# Altium integrated library TI Data Converters Analog to Digital Converter.IntLib: 2197 symbols (part 28 of 168)
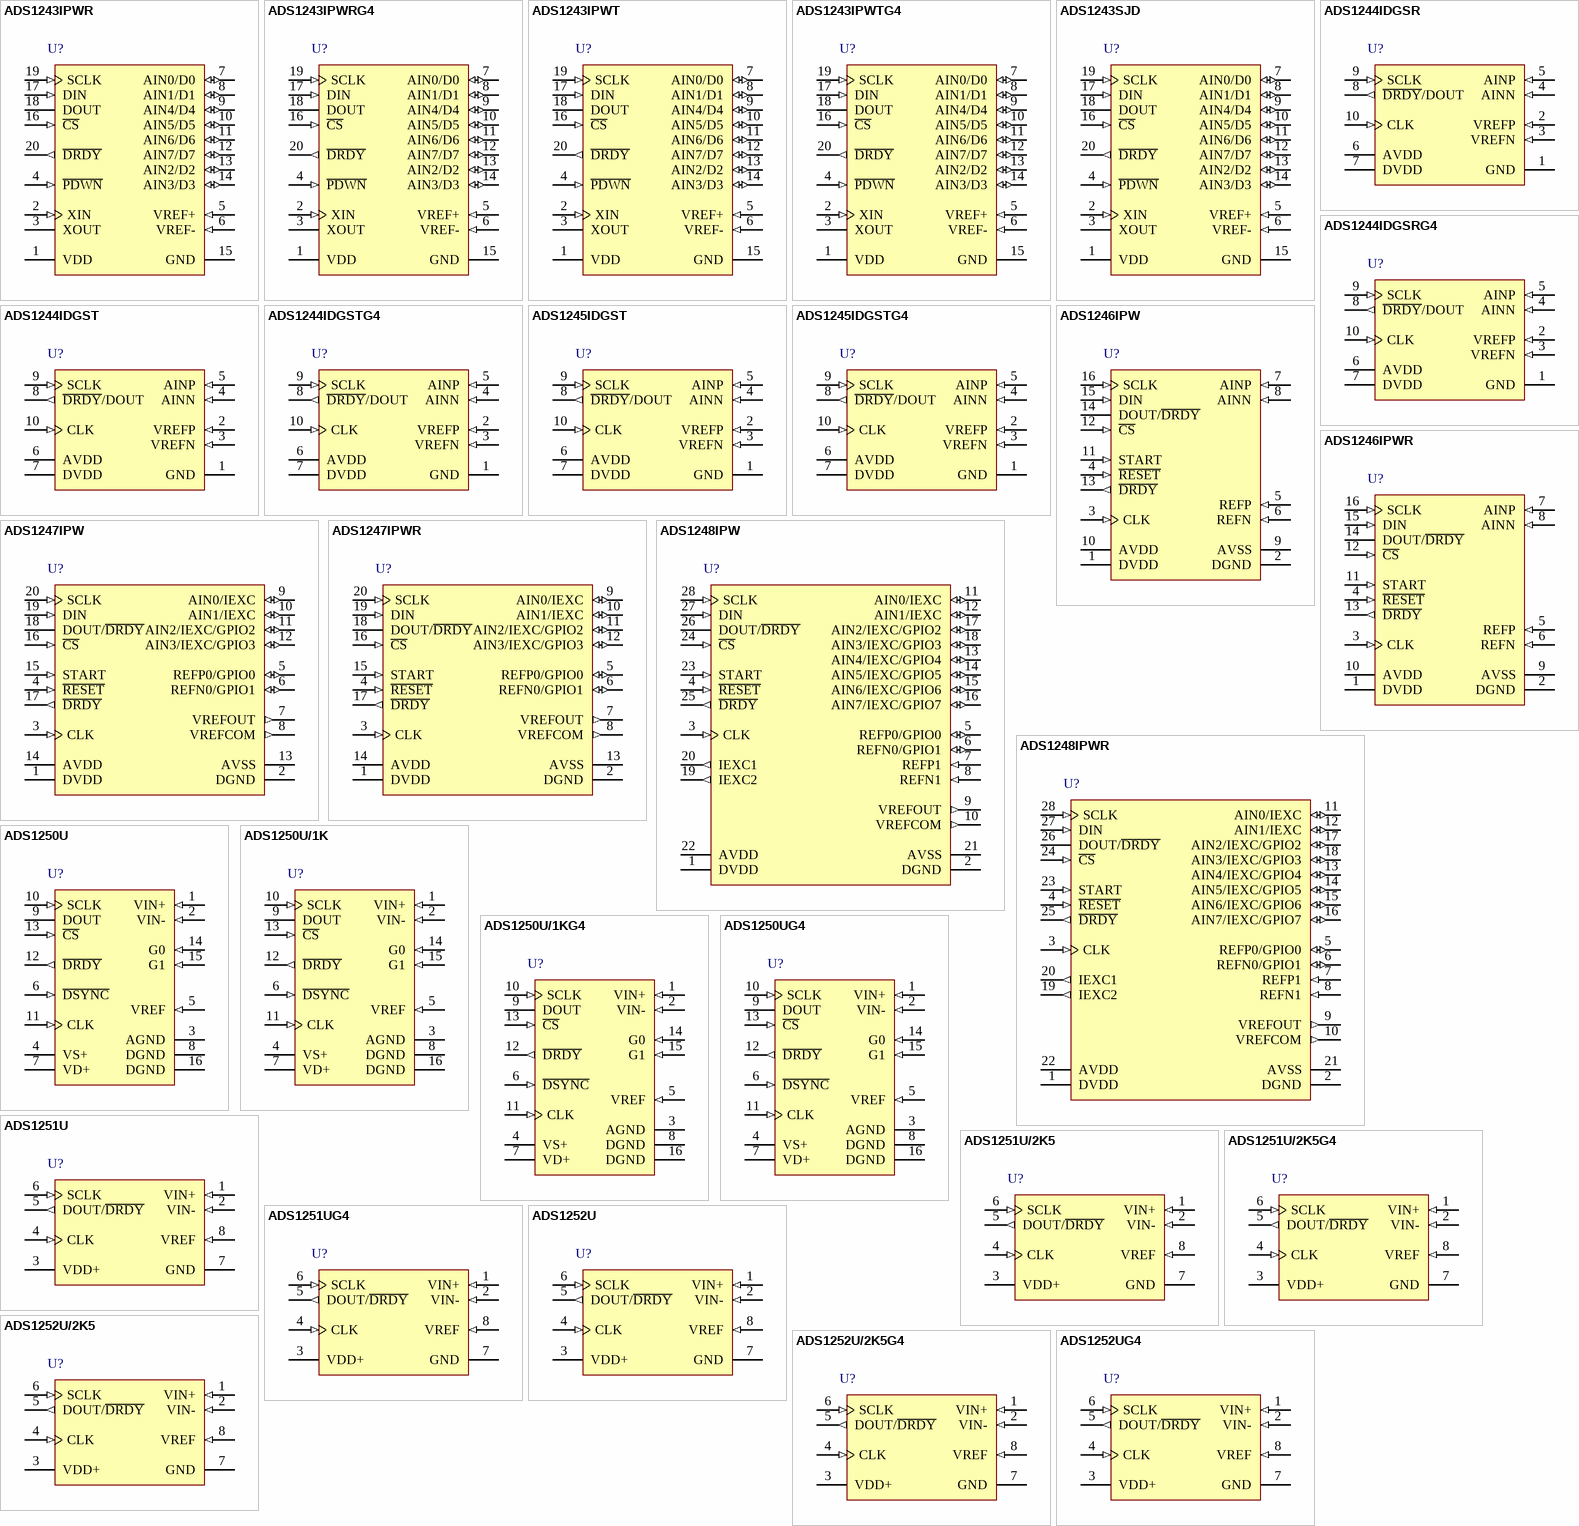
[diagram p153: symbols ADS1243IPWR to ADS1252UG4]

## ADS1250U/1K
designator U?
20-Bit Data Acquisition System, -40 to 85 degC, 16-pin SOIC (DW16), Green (RoHS & no Sb/Br); Manufacturer: Texas Instruments; PartNumber: ADS1250U/1K; # Input Channels: 1; Analog Voltage AV/DD(Max)(V): 5.25; Analog Voltage AV/DD(Min)(V): 4.75; Architecture: Delta-Sigma; ENOB(Bits): 18; Interface: Serial SPI; Resolution(Bits): 20; Sample Rate (max)(SPS): 25k; SubFamily: Precision ADC (<=10MSPS); DatasheetVersion: SBAS114; PackageVersion: 4040000-2/G, 01/2011; PackageReference: DW16; PackageDescription: 16-Pin Plastic Small Outline, Body 10.30 x 7.50 mm, Pitch 1.27 mm; Supplier 1: Digi-Key; Supplier Part Number 1: 296-34356-5-ND; Supplier 2: Mouser; Supplier Part Number 2: 595-TLC3548CDW; Digital Supply(Max)(V): 5.25; Digital Supply(Min)(V): 4.75; Eco-Plan: Green (RoHS & no Sb/Br); Mounting Technology: Surface Mount; Code_JEDEC: MS-013; ComponentLink1Description: Manufacturer URL; ComponentLink1URL: http://www.ti.com/; ComponentLink2Description: Datasheet; ComponentLink2URL: http://www.ti.com/general/docs/lit/getliterature.tsp?genericPartNumber=ADS1250&fileType=pdf; ComponentLink3Description: Package Specification; ComponentLink3URL: http://www.ti.com/litv/pdf/msoi003g
footprint TI-DW16_N (SOIC, 16-Leads, Body 10.3x7.5mm, Pitch 1.27mm, IPC Medium Density)
footprint TI-DW16_L (SOIC, 16-Leads, Body 10.3x7.5mm, Pitch 1.27mm, IPC High Density)
footprint TI-DW16_M (SOIC, 16-Leads, Body 10.3x7.5mm, Pitch 1.27mm, IPC Low Density)
pins: 1 VIN+ (in) "Analog Input: Positive Input of the Differential Analog Input.", 2 VIN- (in) "Analog Input: Negative Input of the Differential Analog Input.", 3 AGND (power) "Analog Input: Analog Ground.", 4 VS+ (power) "Analog Input: Analog Power Supply Voltage, +5V.", 5 VREF (in) "Analog Input: Reference Voltage Input.", 6 ~{DSYNC} (in) "Digital Input: Data Synchronization. A falling edge on this input will reset the modulator count and place the modulator in a hold state. The modulator is released from the hold state on the rising edge of D\S\Y\N\C\. This (See Datasheet)", 7 VD+ (power) "Digital Input: Digital Power Supply Voltage, +5V.", 8 DGND (power) "Digital Input: Digital Ground.", 9 DOUT (hiz) "Digital Output: Serial Data Output. The serial data is clocked out of the serial data output shift register through this pin. The pin is driven when C\S\ is LOW, and high impedance when C\S\ is HIGH.", 10 SCLK (in) "Digital Input: Serial Clock. The serial clock is in the form of a CMOS-compatible clock. The serial clock can operate up to the device’s system clock frequency. The serial clock can be either a free-running clock o(See Datasheet)", 11 CLK (in) "Digital Input: Device System Clock. The system clock is in the form of a CMOS-compatible clock.", 12 ~{DRDY} (out) "Digital Output: Data Ready. A falling edge on this output indicates that a new output word is available from the ADS1250 data output register", 13 ~{CS} (in) "Digital Input: Chip Select. Active LOW logic input used to enable serial data output from the ADS1250. C\S\ controls the state of the DOUT pin. If C\S\ is HIGH, DOUT is high impedance; if C\S\ is LOW, DOUT drives the bus. (See Datasheet)", 14 G0 (in) "Digital Input: Gain Selection Control (LSB).", 15 G1 (in) "Digital Input: Gain Selection Control (MSB).", 16 DGND (power) "Digital Input: Digital Ground."

## ADS1250U/1KG4
designator U?
20-Bit Data Acquisition System, -40 to 85 degC, 16-pin SOIC (DW16), Green (RoHS & no Sb/Br); Manufacturer: Texas Instruments; PartNumber: ADS1250U/1KG4; # Input Channels: 1; Analog Voltage AV/DD(Max)(V): 5.25; Analog Voltage AV/DD(Min)(V): 4.75; Architecture: Delta-Sigma; ENOB(Bits): 18; Interface: Serial SPI; Resolution(Bits): 20; Sample Rate (max)(SPS): 25k; SubFamily: Precision ADC (<=10MSPS); DatasheetVersion: SBAS114; PackageVersion: 4040000-2/G, 01/2011; PackageReference: DW16; PackageDescription: 16-Pin Plastic Small Outline, Body 10.30 x 7.50 mm, Pitch 1.27 mm; Supplier 1: Digi-Key; Supplier Part Number 1: TLC3548CDWG4-ND; Supplier 2: Mouser; Supplier Part Number 2: 595-TLC3548CDWG4; Digital Supply(Max)(V): 5.25; Digital Supply(Min)(V): 4.75; Eco-Plan: Green (RoHS & no Sb/Br); Mounting Technology: Surface Mount; Code_JEDEC: MS-013; ComponentLink1Description: Manufacturer URL; ComponentLink1URL: http://www.ti.com/; ComponentLink2Description: Datasheet; ComponentLink2URL: http://www.ti.com/general/docs/lit/getliterature.tsp?genericPartNumber=ADS1250&fileType=pdf; ComponentLink3Description: Package Specification; ComponentLink3URL: http://www.ti.com/litv/pdf/msoi003g
footprint TI-DW16_N (SOIC, 16-Leads, Body 10.3x7.5mm, Pitch 1.27mm, IPC Medium Density)
footprint TI-DW16_L (SOIC, 16-Leads, Body 10.3x7.5mm, Pitch 1.27mm, IPC High Density)
footprint TI-DW16_M (SOIC, 16-Leads, Body 10.3x7.5mm, Pitch 1.27mm, IPC Low Density)
pins: 1 VIN+ (in) "Analog Input: Positive Input of the Differential Analog Input.", 2 VIN- (in) "Analog Input: Negative Input of the Differential Analog Input.", 3 AGND (power) "Analog Input: Analog Ground.", 4 VS+ (power) "Analog Input: Analog Power Supply Voltage, +5V.", 5 VREF (in) "Analog Input: Reference Voltage Input.", 6 ~{DSYNC} (in) "Digital Input: Data Synchronization. A falling edge on this input will reset the modulator count and place the modulator in a hold state. The modulator is released from the hold state on the rising edge of D\S\Y\N\C\. This (See Datasheet)", 7 VD+ (power) "Digital Input: Digital Power Supply Voltage, +5V.", 8 DGND (power) "Digital Input: Digital Ground.", 9 DOUT (hiz) "Digital Output: Serial Data Output. The serial data is clocked out of the serial data output shift register through this pin. The pin is driven when C\S\ is LOW, and high impedance when C\S\ is HIGH.", 10 SCLK (in) "Digital Input: Serial Clock. The serial clock is in the form of a CMOS-compatible clock. The serial clock can operate up to the device’s system clock frequency. The serial clock can be either a free-running clock o(See Datasheet)", 11 CLK (in) "Digital Input: Device System Clock. The system clock is in the form of a CMOS-compatible clock.", 12 ~{DRDY} (out) "Digital Output: Data Ready. A falling edge on this output indicates that a new output word is available from the ADS1250 data output register", 13 ~{CS} (in) "Digital Input: Chip Select. Active LOW logic input used to enable serial data output from the ADS1250. C\S\ controls the state of the DOUT pin. If C\S\ is HIGH, DOUT is high impedance; if C\S\ is LOW, DOUT drives the bus. (See Datasheet)", 14 G0 (in) "Digital Input: Gain Selection Control (LSB).", 15 G1 (in) "Digital Input: Gain Selection Control (MSB).", 16 DGND (power) "Digital Input: Digital Ground."

## ADS1250UG4
designator U?
20-Bit Data Acquisition System, -40 to 85 degC, 16-pin SOIC (DW16), Green (RoHS & no Sb/Br); Manufacturer: Texas Instruments; PartNumber: ADS1250UG4; # Input Channels: 1; Analog Voltage AV/DD(Max)(V): 5.25; Analog Voltage AV/DD(Min)(V): 4.75; Architecture: Delta-Sigma; ENOB(Bits): 18; Interface: Serial SPI; Resolution(Bits): 20; Sample Rate (max)(SPS): 25k; SubFamily: Precision ADC (<=10MSPS); DatasheetVersion: SBAS114; PackageVersion: 4040000-2/G, 01/2011; PackageReference: DW16; PackageDescription: 16-Pin Plastic Small Outline, Body 10.30 x 7.50 mm, Pitch 1.27 mm; Supplier 1: Digi-Key; Supplier Part Number 1: TLC3548CDWR-ND; Supplier 2: Mouser; Supplier Part Number 2: 595-TLC3548CDWR; Digital Supply(Max)(V): 5.25; Digital Supply(Min)(V): 4.75; Eco-Plan: Green (RoHS & no Sb/Br); Mounting Technology: Surface Mount; Code_JEDEC: MS-013; ComponentLink1Description: Manufacturer URL; ComponentLink1URL: http://www.ti.com/; ComponentLink2Description: Datasheet; ComponentLink2URL: http://www.ti.com/general/docs/lit/getliterature.tsp?genericPartNumber=ADS1250&fileType=pdf; ComponentLink3Description: Package Specification; ComponentLink3URL: http://www.ti.com/litv/pdf/msoi003g
footprint TI-DW16_N (SOIC, 16-Leads, Body 10.3x7.5mm, Pitch 1.27mm, IPC Medium Density)
footprint TI-DW16_L (SOIC, 16-Leads, Body 10.3x7.5mm, Pitch 1.27mm, IPC High Density)
footprint TI-DW16_M (SOIC, 16-Leads, Body 10.3x7.5mm, Pitch 1.27mm, IPC Low Density)
pins: 1 VIN+ (in) "Analog Input: Positive Input of the Differential Analog Input.", 2 VIN- (in) "Analog Input: Negative Input of the Differential Analog Input.", 3 AGND (power) "Analog Input: Analog Ground.", 4 VS+ (power) "Analog Input: Analog Power Supply Voltage, +5V.", 5 VREF (in) "Analog Input: Reference Voltage Input.", 6 ~{DSYNC} (in) "Digital Input: Data Synchronization. A falling edge on this input will reset the modulator count and place the modulator in a hold state. The modulator is released from the hold state on the rising edge of D\S\Y\N\C\. This (See Datasheet)", 7 VD+ (power) "Digital Input: Digital Power Supply Voltage, +5V.", 8 DGND (power) "Digital Input: Digital Ground.", 9 DOUT (hiz) "Digital Output: Serial Data Output. The serial data is clocked out of the serial data output shift register through this pin. The pin is driven when C\S\ is LOW, and high impedance when C\S\ is HIGH.", 10 SCLK (in) "Digital Input: Serial Clock. The serial clock is in the form of a CMOS-compatible clock. The serial clock can operate up to the device’s system clock frequency. The serial clock can be either a free-running clock o(See Datasheet)", 11 CLK (in) "Digital Input: Device System Clock. The system clock is in the form of a CMOS-compatible clock.", 12 ~{DRDY} (out) "Digital Output: Data Ready. A falling edge on this output indicates that a new output word is available from the ADS1250 data output register", 13 ~{CS} (in) "Digital Input: Chip Select. Active LOW logic input used to enable serial data output from the ADS1250. C\S\ controls the state of the DOUT pin. If C\S\ is HIGH, DOUT is high impedance; if C\S\ is LOW, DOUT drives the bus. (See Datasheet)", 14 G0 (in) "Digital Input: Gain Selection Control (LSB).", 15 G1 (in) "Digital Input: Gain Selection Control (MSB).", 16 DGND (power) "Digital Input: Digital Ground."

## ADS1251U
designator U?
ResolutionPlus 24-Bit, 20 kHz, Low Power ADC, -40 to 85 degC, 8-pin SOIC (D8), Green (RoHS & no Sb/Br); Manufacturer: Texas Instruments; PartNumber: ADS1251U; # Input Channels: 1; Analog Voltage AV/DD(Max)(V): 5.25; Analog Voltage AV/DD(Min)(V): 4.75; Architecture: Delta-Sigma; Interface: Serial SPI; Resolution(Bits): 24; Sample Rate (max)(SPS): 20k; SubFamily: Precision ADC (<=10MSPS); DatasheetVersion: SBAS184D; PackageVersion: 4040047-3/M, 06/2011; PackageReference: D8; PackageDescription: 8-Pin Plastic Small Outline, Body 4.9 x 3.9 mm, Pitch 1.27 mm; Supplier 1: Digi-Key; Supplier Part Number 1: TLC3548CDWRG4-ND; Supplier 2: Mouser; Supplier Part Number 2: 595-TLC3548CDWRG4; Digital Supply(Max)(V): 5.25; Digital Supply(Min)(V): 4.75; Eco-Plan: Green (RoHS & no Sb/Br); Mounting Technology: Surface Mount; Code_JEDEC: MS-012; ComponentLink1Description: Manufacturer URL; ComponentLink1URL: http://www.ti.com/; ComponentLink2Description: Datasheet; ComponentLink2URL: http://www.ti.com/general/docs/lit/getliterature.tsp?genericPartNumber=ADS1251&fileType=pdf; ComponentLink3Description: Package Specification; ComponentLink3URL: http://www.ti.com/litv/pdf/msoi002j
footprint TI-D8_N (SOIC, 8-Leads, Body 4.9x3.9mm, Pitch 1.27mm, IPC Medium Density)
footprint TI-D8_L (SOIC, 8-Leads, Body 4.9x3.9mm, Pitch 1.27mm, IPC High Density)
footprint TI-D8_M (SOIC, 8-Leads, Body 4.9x3.9mm, Pitch 1.27mm, IPC Low Density)
pins: 1 VIN+ (in) "Analog Input: Positive Input of the Differential Analog Input", 2 VIN- (in) "Analog Input: Negative Input of the Differential Analog Input.", 3 VDD+ (power) "Input: Power-Supply Voltage, +5V", 4 CLK (in) "Digital Input: Device System Clock. The system clock is in the form of a CMOScompatible clock. This is a Schmitt-Trigger input.", 5 DOUT/~{DRDY} (out), 6 SCLK (in) "Digital Input: Serial Clock. The serial clock is in the form of a CMOS-compatible clock. The serial clock operates independently from the system clock, therefore, it is possible to run SCLK at a higher frequency than CLK. (See Datasheet)", 7 GND (power) "Input: Ground", 8 VREF (in) "Analog Input: Reference Voltage Input"

## ADS1251U/2K5
designator U?
ResolutionPlus 24-Bit, 20 kHz, Low Power ADC, -40 to 85 degC, 8-pin SOIC (D8), Green (RoHS & no Sb/Br); Manufacturer: Texas Instruments; PartNumber: ADS1251U/2K5; # Input Channels: 1; Analog Voltage AV/DD(Max)(V): 5.25; Analog Voltage AV/DD(Min)(V): 4.75; Architecture: Delta-Sigma; Interface: Serial SPI; Resolution(Bits): 24; Sample Rate (max)(SPS): 20k; SubFamily: Precision ADC (<=10MSPS); DatasheetVersion: SBAS184D; PackageVersion: 4040047-3/M, 06/2011; PackageReference: D8; PackageDescription: 8-Pin Plastic Small Outline, Body 4.9 x 3.9 mm, Pitch 1.27 mm; Supplier 1: Digi-Key; Supplier Part Number 1: 296-10290-5-ND; Supplier 2: Farnell; Supplier Part Number 2: 8454256; Supplier 3: Mouser; Supplier Part Number 3: 595-TLC3548IDW; Digital Supply(Max)(V): 5.25; Digital Supply(Min)(V): 4.75; Eco-Plan: Green (RoHS & no Sb/Br); Mounting Technology: Surface Mount; Code_JEDEC: MS-012; ComponentLink1Description: Manufacturer URL; ComponentLink1URL: http://www.ti.com/; ComponentLink2Description: Datasheet; ComponentLink2URL: http://www.ti.com/general/docs/lit/getliterature.tsp?genericPartNumber=ADS1251&fileType=pdf; ComponentLink3Description: Package Specification; ComponentLink3URL: http://www.ti.com/litv/pdf/msoi002j
footprint TI-D8_N (SOIC, 8-Leads, Body 4.9x3.9mm, Pitch 1.27mm, IPC Medium Density)
footprint TI-D8_L (SOIC, 8-Leads, Body 4.9x3.9mm, Pitch 1.27mm, IPC High Density)
footprint TI-D8_M (SOIC, 8-Leads, Body 4.9x3.9mm, Pitch 1.27mm, IPC Low Density)
pins: 1 VIN+ (in) "Analog Input: Positive Input of the Differential Analog Input", 2 VIN- (in) "Analog Input: Negative Input of the Differential Analog Input.", 3 VDD+ (power) "Input: Power-Supply Voltage, +5V", 4 CLK (in) "Digital Input: Device System Clock. The system clock is in the form of a CMOScompatible clock. This is a Schmitt-Trigger input.", 5 DOUT/~{DRDY} (out), 6 SCLK (in) "Digital Input: Serial Clock. The serial clock is in the form of a CMOS-compatible clock. The serial clock operates independently from the system clock, therefore, it is possible to run SCLK at a higher frequency than CLK. (See Datasheet)", 7 GND (power) "Input: Ground", 8 VREF (in) "Analog Input: Reference Voltage Input"

## ADS1251U/2K5G4
designator U?
ResolutionPlus 24-Bit, 20 kHz, Low Power ADC, -40 to 85 degC, 8-pin SOIC (D8), Green (RoHS & no Sb/Br); Manufacturer: Texas Instruments; PartNumber: ADS1251U/2K5G4; # Input Channels: 1; Analog Voltage AV/DD(Max)(V): 5.25; Analog Voltage AV/DD(Min)(V): 4.75; Architecture: Delta-Sigma; Interface: Serial SPI; Resolution(Bits): 24; Sample Rate (max)(SPS): 20k; SubFamily: Precision ADC (<=10MSPS); DatasheetVersion: SBAS184D; PackageVersion: 4040047-3/M, 06/2011; PackageReference: D8; PackageDescription: 8-Pin Plastic Small Outline, Body 4.9 x 3.9 mm, Pitch 1.27 mm; Supplier 1: Digi-Key; Supplier Part Number 1: TLC3548IDWG4-ND; Supplier 2: Mouser; Supplier Part Number 2: 595-TLC3548IDWG4; Digital Supply(Max)(V): 5.25; Digital Supply(Min)(V): 4.75; Eco-Plan: Green (RoHS & no Sb/Br); Mounting Technology: Surface Mount; Code_JEDEC: MS-012; ComponentLink1Description: Manufacturer URL; ComponentLink1URL: http://www.ti.com/; ComponentLink2Description: Datasheet; ComponentLink2URL: http://www.ti.com/general/docs/lit/getliterature.tsp?genericPartNumber=ADS1251&fileType=pdf; ComponentLink3Description: Package Specification; ComponentLink3URL: http://www.ti.com/litv/pdf/msoi002j
footprint TI-D8_N (SOIC, 8-Leads, Body 4.9x3.9mm, Pitch 1.27mm, IPC Medium Density)
footprint TI-D8_L (SOIC, 8-Leads, Body 4.9x3.9mm, Pitch 1.27mm, IPC High Density)
footprint TI-D8_M (SOIC, 8-Leads, Body 4.9x3.9mm, Pitch 1.27mm, IPC Low Density)
pins: 1 VIN+ (in) "Analog Input: Positive Input of the Differential Analog Input", 2 VIN- (in) "Analog Input: Negative Input of the Differential Analog Input.", 3 VDD+ (power) "Input: Power-Supply Voltage, +5V", 4 CLK (in) "Digital Input: Device System Clock. The system clock is in the form of a CMOScompatible clock. This is a Schmitt-Trigger input.", 5 DOUT/~{DRDY} (out), 6 SCLK (in) "Digital Input: Serial Clock. The serial clock is in the form of a CMOS-compatible clock. The serial clock operates independently from the system clock, therefore, it is possible to run SCLK at a higher frequency than CLK. (See Datasheet)", 7 GND (power) "Input: Ground", 8 VREF (in) "Analog Input: Reference Voltage Input"

## ADS1251UG4
designator U?
ResolutionPlus 24-Bit, 20 kHz, Low Power ADC, -40 to 85 degC, 8-pin SOIC (D8), Green (RoHS & no Sb/Br); Manufacturer: Texas Instruments; PartNumber: ADS1251UG4; # Input Channels: 1; Analog Voltage AV/DD(Max)(V): 5.25; Analog Voltage AV/DD(Min)(V): 4.75; Architecture: Delta-Sigma; Interface: Serial SPI; Resolution(Bits): 24; Sample Rate (max)(SPS): 20k; SubFamily: Precision ADC (<=10MSPS); DatasheetVersion: SBAS184D; PackageVersion: 4040047-3/M, 06/2011; PackageReference: D8; PackageDescription: 8-Pin Plastic Small Outline, Body 4.9 x 3.9 mm, Pitch 1.27 mm; Supplier 1: Digi-Key; Supplier Part Number 1: TLC3548IDWR-ND; Supplier 2: Mouser; Supplier Part Number 2: 595-TLC3548IDWR; Digital Supply(Max)(V): 5.25; Digital Supply(Min)(V): 4.75; Eco-Plan: Green (RoHS & no Sb/Br); Mounting Technology: Surface Mount; Code_JEDEC: MS-012; ComponentLink1Description: Manufacturer URL; ComponentLink1URL: http://www.ti.com/; ComponentLink2Description: Datasheet; ComponentLink2URL: http://www.ti.com/general/docs/lit/getliterature.tsp?genericPartNumber=ADS1251&fileType=pdf; ComponentLink3Description: Package Specification; ComponentLink3URL: http://www.ti.com/litv/pdf/msoi002j
footprint TI-D8_N (SOIC, 8-Leads, Body 4.9x3.9mm, Pitch 1.27mm, IPC Medium Density)
footprint TI-D8_L (SOIC, 8-Leads, Body 4.9x3.9mm, Pitch 1.27mm, IPC High Density)
footprint TI-D8_M (SOIC, 8-Leads, Body 4.9x3.9mm, Pitch 1.27mm, IPC Low Density)
pins: 1 VIN+ (in) "Analog Input: Positive Input of the Differential Analog Input", 2 VIN- (in) "Analog Input: Negative Input of the Differential Analog Input.", 3 VDD+ (power) "Input: Power-Supply Voltage, +5V", 4 CLK (in) "Digital Input: Device System Clock. The system clock is in the form of a CMOScompatible clock. This is a Schmitt-Trigger input.", 5 DOUT/~{DRDY} (out), 6 SCLK (in) "Digital Input: Serial Clock. The serial clock is in the form of a CMOS-compatible clock. The serial clock operates independently from the system clock, therefore, it is possible to run SCLK at a higher frequency than CLK. (See Datasheet)", 7 GND (power) "Input: Ground", 8 VREF (in) "Analog Input: Reference Voltage Input"

## ADS1252U
designator U?
ResolutionPlus 24-Bit, 40 kHz ADC, -40 to 85 degC, 8-pin SOIC (D8), Green (RoHS & no Sb/Br); Manufacturer: Texas Instruments; PartNumber: ADS1252U; # Input Channels: 1; Analog Voltage AV/DD(Max)(V): 5.25; Analog Voltage AV/DD(Min)(V): 4.75; Architecture: Delta-Sigma; Interface: Serial SPI; Resolution(Bits): 24; Sample Rate (max)(SPS): 41k; SubFamily: Precision ADC (<=10MSPS); DatasheetVersion: SBAS127D; PackageVersion: 4040047-3/M, 06/2011; PackageReference: D8; PackageDescription: 8-Pin Plastic Small Outline, Body 4.9 x 3.9 mm, Pitch 1.27 mm; Supplier 1: Digi-Key; Supplier Part Number 1: TLC3548IDWRG4-ND; Supplier 2: Mouser; Supplier Part Number 2: 595-TLC3548IDWRG4; Digital Supply(Max)(V): 5.25; Digital Supply(Min)(V): 4.75; Eco-Plan: Green (RoHS & no Sb/Br); INL(Max)(+/-LSB): 1; Mounting Technology: Surface Mount; Code_JEDEC: MS-012; ComponentLink1Description: Manufacturer URL; ComponentLink1URL: http://www.ti.com/; ComponentLink2Description: Datasheet; ComponentLink2URL: http://www.ti.com/general/docs/lit/getliterature.tsp?genericPartNumber=ADS1252&fileType=pdf; ComponentLink3Description: Package Specification; ComponentLink3URL: http://www.ti.com/litv/pdf/msoi002j
footprint TI-D8_N (SOIC, 8-Leads, Body 4.9x3.9mm, Pitch 1.27mm, IPC Medium Density)
footprint TI-D8_L (SOIC, 8-Leads, Body 4.9x3.9mm, Pitch 1.27mm, IPC High Density)
footprint TI-D8_M (SOIC, 8-Leads, Body 4.9x3.9mm, Pitch 1.27mm, IPC Low Density)
pins: 1 VIN+ (in) "Analog Input: Positive Input of the Differential Analog Input", 2 VIN- (in) "Analog Input: Negative Input of the Differential Analog Input.", 3 VDD+ (power) "Input: Power-Supply Voltage, +5V", 4 CLK (in) "Digital Input: Device System Clock. The system clock is in the form of a CMOScompatible clock. This is a Schmitt-Trigger input.", 5 DOUT/~{DRDY} (out), 6 SCLK (in) "Digital Input: Serial Clock. The serial clock is in the form of a CMOS-compatible clock. The serial clock operates independently from the system clock, therefore, it is possible to run SCLK at a higher frequency than CLK. (See Datasheet)", 7 GND (power) "Input: Ground", 8 VREF (in) "Analog Input: Reference Voltage Input"

## ADS1252U/2K5
designator U?
ResolutionPlus 24-Bit, 40 kHz ADC, -40 to 85 degC, 8-pin SOIC (D8), Green (RoHS & no Sb/Br); Manufacturer: Texas Instruments; PartNumber: ADS1252U/2K5; # Input Channels: 1; Analog Voltage AV/DD(Max)(V): 5.25; Analog Voltage AV/DD(Min)(V): 4.75; Architecture: Delta-Sigma; Interface: Serial SPI; Resolution(Bits): 24; Sample Rate (max)(SPS): 41k; SubFamily: Precision ADC (<=10MSPS); DatasheetVersion: SBAS127D; PackageVersion: 4040047-3/M, 06/2011; PackageReference: D8; PackageDescription: 8-Pin Plastic Small Outline, Body 4.9 x 3.9 mm, Pitch 1.27 mm; Supplier 1: Digi-Key; Supplier Part Number 1: 296-2207-5-ND; Supplier 2: Mouser; Supplier Part Number 2: 595-TLV571IDW; Digital Supply(Max)(V): 5.25; Digital Supply(Min)(V): 4.75; Eco-Plan: Green (RoHS & no Sb/Br); INL(Max)(+/-LSB): 1; Mounting Technology: Surface Mount; Code_JEDEC: MS-012; ComponentLink1Description: Manufacturer URL; ComponentLink1URL: http://www.ti.com/; ComponentLink2Description: Datasheet; ComponentLink2URL: http://www.ti.com/general/docs/lit/getliterature.tsp?genericPartNumber=ADS1252&fileType=pdf; ComponentLink3Description: Package Specification; ComponentLink3URL: http://www.ti.com/litv/pdf/msoi002j
footprint TI-D8_N (SOIC, 8-Leads, Body 4.9x3.9mm, Pitch 1.27mm, IPC Medium Density)
footprint TI-D8_L (SOIC, 8-Leads, Body 4.9x3.9mm, Pitch 1.27mm, IPC High Density)
footprint TI-D8_M (SOIC, 8-Leads, Body 4.9x3.9mm, Pitch 1.27mm, IPC Low Density)
pins: 1 VIN+ (in) "Analog Input: Positive Input of the Differential Analog Input", 2 VIN- (in) "Analog Input: Negative Input of the Differential Analog Input.", 3 VDD+ (power) "Input: Power-Supply Voltage, +5V", 4 CLK (in) "Digital Input: Device System Clock. The system clock is in the form of a CMOScompatible clock. This is a Schmitt-Trigger input.", 5 DOUT/~{DRDY} (out), 6 SCLK (in) "Digital Input: Serial Clock. The serial clock is in the form of a CMOS-compatible clock. The serial clock operates independently from the system clock, therefore, it is possible to run SCLK at a higher frequency than CLK. (See Datasheet)", 7 GND (power) "Input: Ground", 8 VREF (in) "Analog Input: Reference Voltage Input"

## ADS1252U/2K5G4
designator U?
ResolutionPlus 24-Bit, 40 kHz ADC, -40 to 85 degC, 8-pin SOIC (D8), Green (RoHS & no Sb/Br); Manufacturer: Texas Instruments; PartNumber: ADS1252U/2K5G4; # Input Channels: 1; Analog Voltage AV/DD(Max)(V): 5.25; Analog Voltage AV/DD(Min)(V): 4.75; Architecture: Delta-Sigma; Interface: Serial SPI; Resolution(Bits): 24; Sample Rate (max)(SPS): 41k; SubFamily: Precision ADC (<=10MSPS); DatasheetVersion: SBAS127D; PackageVersion: 4040047-3/M, 06/2011; PackageReference: D8; PackageDescription: 8-Pin Plastic Small Outline, Body 4.9 x 3.9 mm, Pitch 1.27 mm; Supplier 1: Digi-Key; Supplier Part Number 1: TLV571IDWG4-ND; Supplier 2: Mouser; Supplier Part Number 2: 595-TLV571IDWG4; Digital Supply(Max)(V): 5.25; Digital Supply(Min)(V): 4.75; Eco-Plan: Green (RoHS & no Sb/Br); INL(Max)(+/-LSB): 1; Mounting Technology: Surface Mount; Code_JEDEC: MS-012; ComponentLink1Description: Manufacturer URL; ComponentLink1URL: http://www.ti.com/; ComponentLink2Description: Datasheet; ComponentLink2URL: http://www.ti.com/general/docs/lit/getliterature.tsp?genericPartNumber=ADS1252&fileType=pdf; ComponentLink3Description: Package Specification; ComponentLink3URL: http://www.ti.com/litv/pdf/msoi002j
footprint TI-D8_N (SOIC, 8-Leads, Body 4.9x3.9mm, Pitch 1.27mm, IPC Medium Density)
footprint TI-D8_L (SOIC, 8-Leads, Body 4.9x3.9mm, Pitch 1.27mm, IPC High Density)
footprint TI-D8_M (SOIC, 8-Leads, Body 4.9x3.9mm, Pitch 1.27mm, IPC Low Density)
pins: 1 VIN+ (in) "Analog Input: Positive Input of the Differential Analog Input", 2 VIN- (in) "Analog Input: Negative Input of the Differential Analog Input.", 3 VDD+ (power) "Input: Power-Supply Voltage, +5V", 4 CLK (in) "Digital Input: Device System Clock. The system clock is in the form of a CMOScompatible clock. This is a Schmitt-Trigger input.", 5 DOUT/~{DRDY} (out), 6 SCLK (in) "Digital Input: Serial Clock. The serial clock is in the form of a CMOS-compatible clock. The serial clock operates independently from the system clock, therefore, it is possible to run SCLK at a higher frequency than CLK. (See Datasheet)", 7 GND (power) "Input: Ground", 8 VREF (in) "Analog Input: Reference Voltage Input"

## ADS1252UG4
designator U?
ResolutionPlus 24-Bit, 40 kHz ADC, -40 to 85 degC, 8-pin SOIC (D8), Green (RoHS & no Sb/Br); Manufacturer: Texas Instruments; PartNumber: ADS1252UG4; # Input Channels: 1; Analog Voltage AV/DD(Max)(V): 5.25; Analog Voltage AV/DD(Min)(V): 4.75; Architecture: Delta-Sigma; Interface: Serial SPI; Resolution(Bits): 24; Sample Rate (max)(SPS): 41k; SubFamily: Precision ADC (<=10MSPS); DatasheetVersion: SBAS127D; PackageVersion: 4040047-3/M, 06/2011; PackageReference: D8; PackageDescription: 8-Pin Plastic Small Outline, Body 4.9 x 3.9 mm, Pitch 1.27 mm; Supplier 1: Digi-Key; Supplier Part Number 1: ADS1240E-ND; Supplier 2: Mouser; Supplier Part Number 2: 595-ADS1240E; Digital Supply(Max)(V): 5.25; Digital Supply(Min)(V): 4.75; Eco-Plan: Green (RoHS & no Sb/Br); INL(Max)(+/-LSB): 1; Mounting Technology: Surface Mount; Code_JEDEC: MS-012; ComponentLink1Description: Manufacturer URL; ComponentLink1URL: http://www.ti.com/; ComponentLink2Description: Datasheet; ComponentLink2URL: http://www.ti.com/general/docs/lit/getliterature.tsp?genericPartNumber=ADS1252&fileType=pdf; ComponentLink3Description: Package Specification; ComponentLink3URL: http://www.ti.com/litv/pdf/msoi002j
footprint TI-D8_N (SOIC, 8-Leads, Body 4.9x3.9mm, Pitch 1.27mm, IPC Medium Density)
footprint TI-D8_L (SOIC, 8-Leads, Body 4.9x3.9mm, Pitch 1.27mm, IPC High Density)
footprint TI-D8_M (SOIC, 8-Leads, Body 4.9x3.9mm, Pitch 1.27mm, IPC Low Density)
pins: 1 VIN+ (in) "Analog Input: Positive Input of the Differential Analog Input", 2 VIN- (in) "Analog Input: Negative Input of the Differential Analog Input.", 3 VDD+ (power) "Input: Power-Supply Voltage, +5V", 4 CLK (in) "Digital Input: Device System Clock. The system clock is in the form of a CMOScompatible clock. This is a Schmitt-Trigger input.", 5 DOUT/~{DRDY} (out), 6 SCLK (in) "Digital Input: Serial Clock. The serial clock is in the form of a CMOS-compatible clock. The serial clock operates independently from the system clock, therefore, it is possible to run SCLK at a higher frequency than CLK. (See Datasheet)", 7 GND (power) "Input: Ground", 8 VREF (in) "Analog Input: Reference Voltage Input"

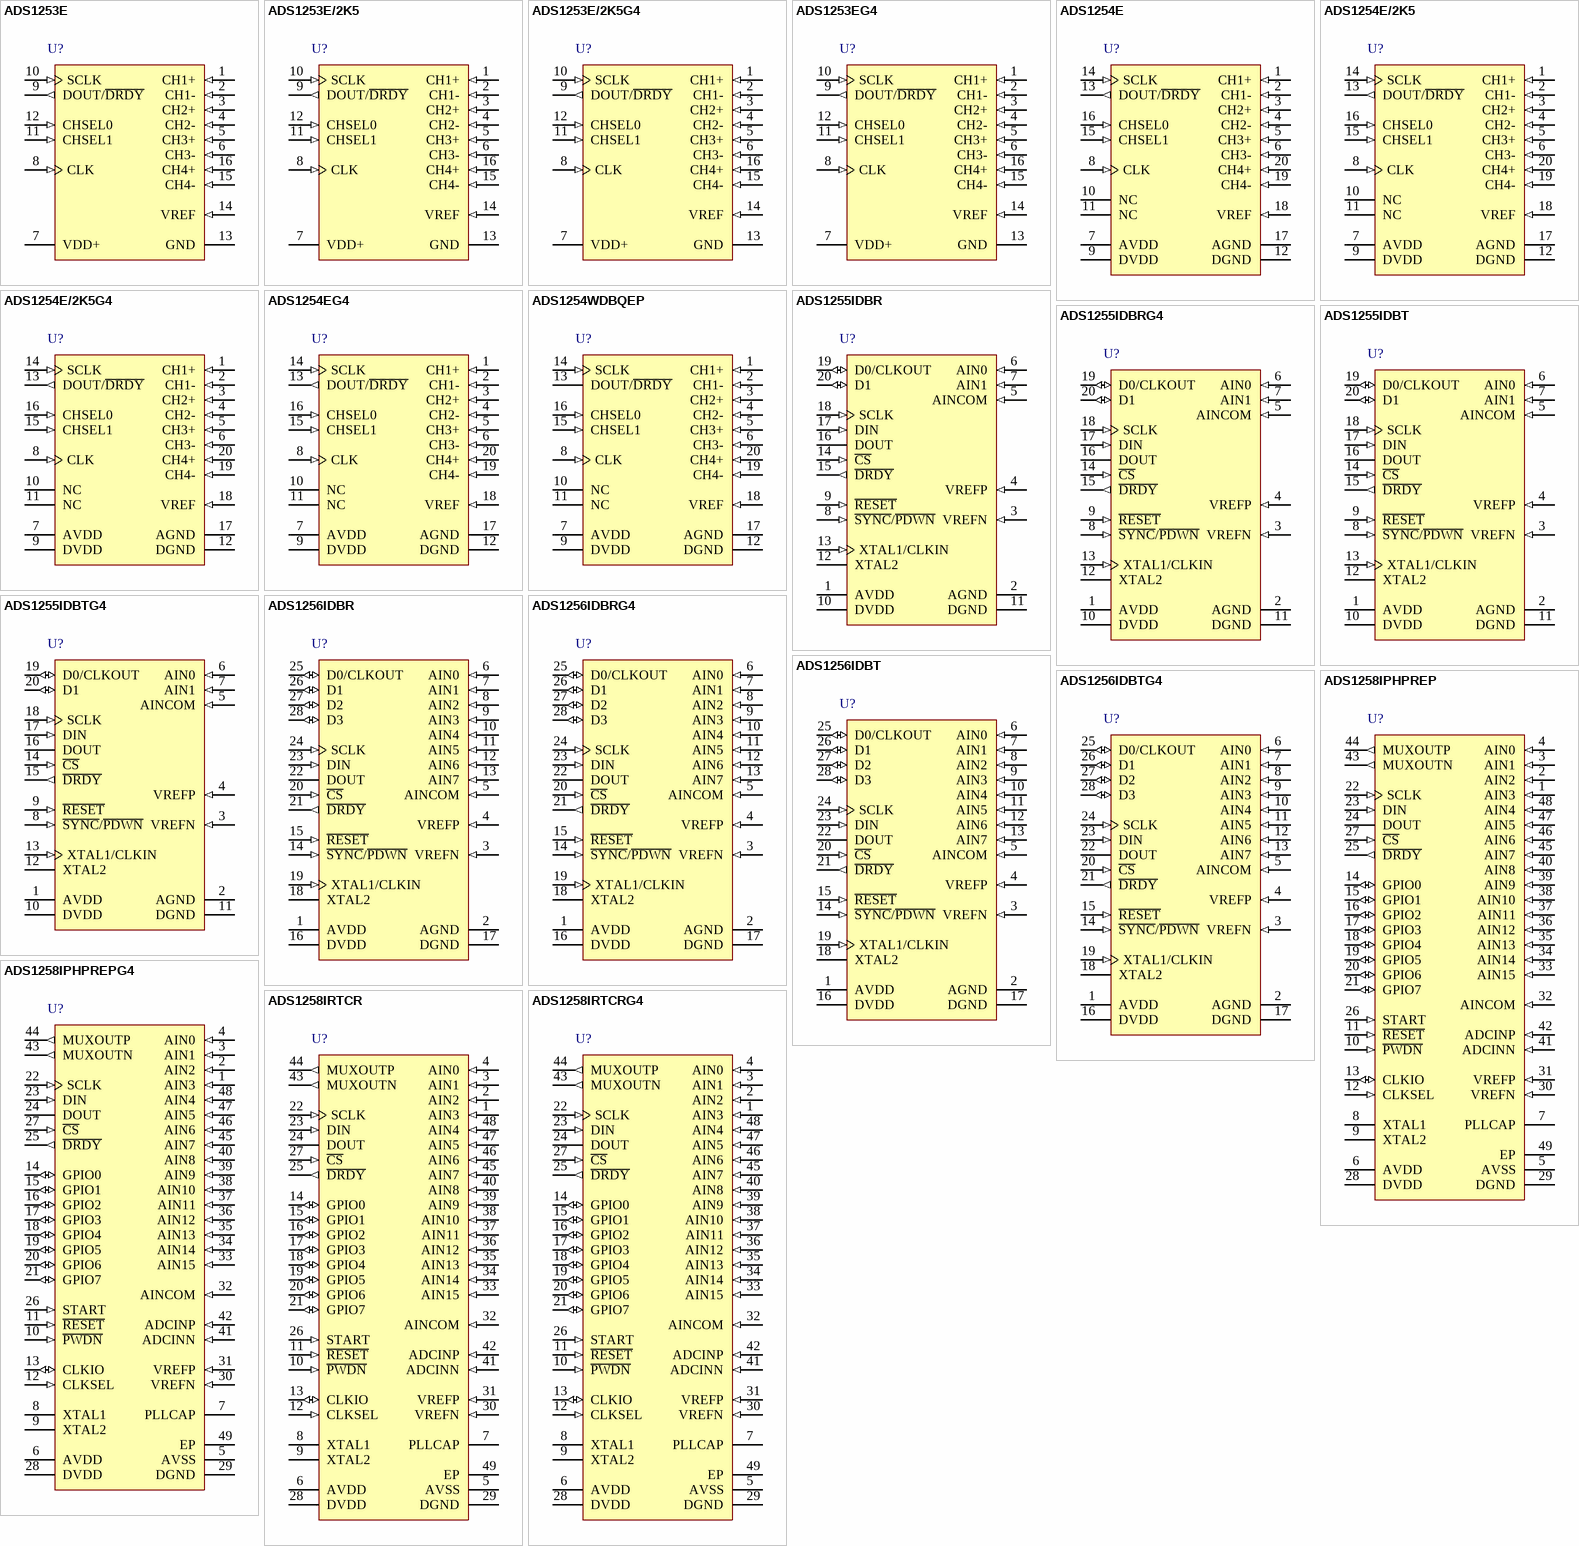
[diagram p22: symbols ADS1253E to ADS1258IRTCRG4]

## ADS1253E
designator U?
24-Bit, 20 kHz, Low Power ADC, -40 to 85 degC, 16-pin SOP (DBQ16), Green (RoHS & no Sb/Br); Manufacturer: Texas Instruments; PartNumber: ADS1253E; # Input Channels: 4; Analog Voltage AV/DD(Max)(V): 5.25; Analog Voltage AV/DD(Min)(V): 4.75; Architecture: Delta-Sigma; Interface: Serial SPI; Resolution(Bits): 24; Sample Rate (max)(SPS): 20k; SubFamily: Precision ADC (<=10MSPS); DatasheetVersion: SBAS199B; PackageVersion: 4073301-2/H, 10/2008; PackageReference: DBQ16; PackageDescription: 16-Pin Plastic Small Outline, Body 3.9 x 4.9 mm, Pitch 0.635 mm; Supplier 1: Digi-Key; Supplier Part Number 1: ADS1240E/1K-ND; Supplier 2: Mouser; Supplier Part Number 2: 595-ADS1240E/1K; Digital Supply(Max)(V): 5.25; Digital Supply(Min)(V): 4.75; Eco-Plan: Green (RoHS & no Sb/Br); Mounting Technology: Surface Mount; Code_JEDEC: MO-137; ComponentLink1Description: Manufacturer URL; ComponentLink1URL: http://www.ti.com/; ComponentLink2Description: Datasheet; ComponentLink2URL: http://www.ti.com/general/docs/lit/getliterature.tsp?genericPartNumber=ADS1253&fileType=pdf; ComponentLink3Description: Package Specification; ComponentLink3URL: http://www.ti.com/litv/pdf/msoi004g
footprint TI-DBQ16_N (SOP, 16-Leads, Body 4.9x3.9mm, Pitch 0.635mm, IPC Medium Density)
footprint TI-DBQ16_L (SOP, 16-Leads, Body 4.9x3.9mm, Pitch 0.635mm, IPC High Density)
footprint TI-DBQ16_M (SOP, 16-Leads, Body 4.9x3.9mm, Pitch 0.635mm, IPC Low Density)
pins: 1 CH1+ (in) "Analog Input: Positive Input of the Differential Analog Input", 2 CH1- (in) "Analog Input: Negative Input of the Differential Analog Input", 3 CH2+ (in) "Analog Input: Positive Input of the Differential Analog Input", 4 CH2- (in) "Analog Input: Negative Input of the Differential Analog Input", 5 CH3+ (in) "Analog Input: Positive Input of the Differential Analog Input", 6 CH3- (in) "Analog Input: Negative Input of the Differential Analog Input", 7 VDD+ (power) "Input: Power-Supply Voltage, +5V", 8 CLK (in) "Digital Input: Device System Clock.", 9 DOUT/~{DRDY} (out) "Digital Output: Serial Data Output/Data Ready", 10 SCLK (in) "Digital Input: Serial Clock.", 11 CHSEL1 (in) "Digital Input: Used to select analog input channel", 12 CHSEL0 (in) "Digital Input: Used to select analog input channel", 13 GND (power) "Input: Ground", 14 VREF (in) "Analog Input: Reference Voltage Input", 15 CH4- (in) "Analog Input: Negative Input of the Differential Analog Input", 16 CH4+ (in) "Analog Input: Positive Input of the Differential Analog Input"

## ADS1253E/2K5
designator U?
24-Bit, 20 kHz, Low Power ADC, -40 to 85 degC, 16-pin SOP (DBQ16), Green (RoHS & no Sb/Br); Manufacturer: Texas Instruments; PartNumber: ADS1253E/2K5; # Input Channels: 4; Analog Voltage AV/DD(Max)(V): 5.25; Analog Voltage AV/DD(Min)(V): 4.75; Architecture: Delta-Sigma; Interface: Serial SPI; Resolution(Bits): 24; Sample Rate (max)(SPS): 20k; SubFamily: Precision ADC (<=10MSPS); DatasheetVersion: SBAS199B; PackageVersion: 4073301-2/H, 10/2008; PackageReference: DBQ16; PackageDescription: 16-Pin Plastic Small Outline, Body 3.9 x 4.9 mm, Pitch 0.635 mm; Supplier 1: Digi-Key; Supplier Part Number 1: ADS1240E/1KG4-ND; Supplier 2: Mouser; Supplier Part Number 2: 595-ADS1240E/1KG4; Digital Supply(Max)(V): 5.25; Digital Supply(Min)(V): 4.75; Eco-Plan: Green (RoHS & no Sb/Br); Mounting Technology: Surface Mount; Code_JEDEC: MO-137; ComponentLink1Description: Manufacturer URL; ComponentLink1URL: http://www.ti.com/; ComponentLink2Description: Datasheet; ComponentLink2URL: http://www.ti.com/general/docs/lit/getliterature.tsp?genericPartNumber=ADS1253&fileType=pdf; ComponentLink3Description: Package Specification; ComponentLink3URL: http://www.ti.com/litv/pdf/msoi004g
footprint TI-DBQ16_N (SOP, 16-Leads, Body 4.9x3.9mm, Pitch 0.635mm, IPC Medium Density)
footprint TI-DBQ16_L (SOP, 16-Leads, Body 4.9x3.9mm, Pitch 0.635mm, IPC High Density)
footprint TI-DBQ16_M (SOP, 16-Leads, Body 4.9x3.9mm, Pitch 0.635mm, IPC Low Density)
pins: 1 CH1+ (in) "Analog Input: Positive Input of the Differential Analog Input", 2 CH1- (in) "Analog Input: Negative Input of the Differential Analog Input", 3 CH2+ (in) "Analog Input: Positive Input of the Differential Analog Input", 4 CH2- (in) "Analog Input: Negative Input of the Differential Analog Input", 5 CH3+ (in) "Analog Input: Positive Input of the Differential Analog Input", 6 CH3- (in) "Analog Input: Negative Input of the Differential Analog Input", 7 VDD+ (power) "Input: Power-Supply Voltage, +5V", 8 CLK (in) "Digital Input: Device System Clock.", 9 DOUT/~{DRDY} (out) "Digital Output: Serial Data Output/Data Ready", 10 SCLK (in) "Digital Input: Serial Clock.", 11 CHSEL1 (in) "Digital Input: Used to select analog input channel", 12 CHSEL0 (in) "Digital Input: Used to select analog input channel", 13 GND (power) "Input: Ground", 14 VREF (in) "Analog Input: Reference Voltage Input", 15 CH4- (in) "Analog Input: Negative Input of the Differential Analog Input", 16 CH4+ (in) "Analog Input: Positive Input of the Differential Analog Input"

## ADS1253E/2K5G4
designator U?
24-Bit, 20 kHz, Low Power ADC, -40 to 85 degC, 16-pin SOP (DBQ16), Green (RoHS & no Sb/Br); Manufacturer: Texas Instruments; PartNumber: ADS1253E/2K5G4; # Input Channels: 4; Analog Voltage AV/DD(Max)(V): 5.25; Analog Voltage AV/DD(Min)(V): 4.75; Architecture: Delta-Sigma; Interface: Serial SPI; Resolution(Bits): 24; Sample Rate (max)(SPS): 20k; SubFamily: Precision ADC (<=10MSPS); DatasheetVersion: SBAS199B; PackageVersion: 4073301-2/H, 10/2008; PackageReference: DBQ16; PackageDescription: 16-Pin Plastic Small Outline, Body 3.9 x 4.9 mm, Pitch 0.635 mm; Supplier 1: Digi-Key; Supplier Part Number 1: ADS1240EG4-ND; Supplier 2: Mouser; Supplier Part Number 2: 595-ADS1240EG4; Digital Supply(Max)(V): 5.25; Digital Supply(Min)(V): 4.75; Eco-Plan: Green (RoHS & no Sb/Br); Mounting Technology: Surface Mount; Code_JEDEC: MO-137; ComponentLink1Description: Manufacturer URL; ComponentLink1URL: http://www.ti.com/; ComponentLink2Description: Datasheet; ComponentLink2URL: http://www.ti.com/general/docs/lit/getliterature.tsp?genericPartNumber=ADS1253&fileType=pdf; ComponentLink3Description: Package Specification; ComponentLink3URL: http://www.ti.com/litv/pdf/msoi004g
footprint TI-DBQ16_N (SOP, 16-Leads, Body 4.9x3.9mm, Pitch 0.635mm, IPC Medium Density)
footprint TI-DBQ16_L (SOP, 16-Leads, Body 4.9x3.9mm, Pitch 0.635mm, IPC High Density)
footprint TI-DBQ16_M (SOP, 16-Leads, Body 4.9x3.9mm, Pitch 0.635mm, IPC Low Density)
pins: 1 CH1+ (in) "Analog Input: Positive Input of the Differential Analog Input", 2 CH1- (in) "Analog Input: Negative Input of the Differential Analog Input", 3 CH2+ (in) "Analog Input: Positive Input of the Differential Analog Input", 4 CH2- (in) "Analog Input: Negative Input of the Differential Analog Input", 5 CH3+ (in) "Analog Input: Positive Input of the Differential Analog Input", 6 CH3- (in) "Analog Input: Negative Input of the Differential Analog Input", 7 VDD+ (power) "Input: Power-Supply Voltage, +5V", 8 CLK (in) "Digital Input: Device System Clock.", 9 DOUT/~{DRDY} (out) "Digital Output: Serial Data Output/Data Ready", 10 SCLK (in) "Digital Input: Serial Clock.", 11 CHSEL1 (in) "Digital Input: Used to select analog input channel", 12 CHSEL0 (in) "Digital Input: Used to select analog input channel", 13 GND (power) "Input: Ground", 14 VREF (in) "Analog Input: Reference Voltage Input", 15 CH4- (in) "Analog Input: Negative Input of the Differential Analog Input", 16 CH4+ (in) "Analog Input: Positive Input of the Differential Analog Input"

## ADS1253EG4
designator U?
24-Bit, 20 kHz, Low Power ADC, -40 to 85 degC, 16-pin SOP (DBQ16), Green (RoHS & no Sb/Br); Manufacturer: Texas Instruments; PartNumber: ADS1253EG4; # Input Channels: 4; Analog Voltage AV/DD(Max)(V): 5.25; Analog Voltage AV/DD(Min)(V): 4.75; Architecture: Delta-Sigma; Interface: Serial SPI; Resolution(Bits): 24; Sample Rate (max)(SPS): 20k; SubFamily: Precision ADC (<=10MSPS); DatasheetVersion: SBAS199B; PackageVersion: 4073301-2/H, 10/2008; PackageReference: DBQ16; PackageDescription: 16-Pin Plastic Small Outline, Body 3.9 x 4.9 mm, Pitch 0.635 mm; Supplier 1: Digi-Key; Supplier Part Number 1: 296-13812-5-ND; Supplier 2: Mouser; Supplier Part Number 2: 595-ADS8361IDBQ; Digital Supply(Max)(V): 5.25; Digital Supply(Min)(V): 4.75; Eco-Plan: Green (RoHS & no Sb/Br); Mounting Technology: Surface Mount; Code_JEDEC: MO-137; ComponentLink1Description: Manufacturer URL; ComponentLink1URL: http://www.ti.com/; ComponentLink2Description: Datasheet; ComponentLink2URL: http://www.ti.com/general/docs/lit/getliterature.tsp?genericPartNumber=ADS1253&fileType=pdf; ComponentLink3Description: Package Specification; ComponentLink3URL: http://www.ti.com/litv/pdf/msoi004g
footprint TI-DBQ16_N (SOP, 16-Leads, Body 4.9x3.9mm, Pitch 0.635mm, IPC Medium Density)
footprint TI-DBQ16_L (SOP, 16-Leads, Body 4.9x3.9mm, Pitch 0.635mm, IPC High Density)
footprint TI-DBQ16_M (SOP, 16-Leads, Body 4.9x3.9mm, Pitch 0.635mm, IPC Low Density)
pins: 1 CH1+ (in) "Analog Input: Positive Input of the Differential Analog Input", 2 CH1- (in) "Analog Input: Negative Input of the Differential Analog Input", 3 CH2+ (in) "Analog Input: Positive Input of the Differential Analog Input", 4 CH2- (in) "Analog Input: Negative Input of the Differential Analog Input", 5 CH3+ (in) "Analog Input: Positive Input of the Differential Analog Input", 6 CH3- (in) "Analog Input: Negative Input of the Differential Analog Input", 7 VDD+ (power) "Input: Power-Supply Voltage, +5V", 8 CLK (in) "Digital Input: Device System Clock.", 9 DOUT/~{DRDY} (out) "Digital Output: Serial Data Output/Data Ready", 10 SCLK (in) "Digital Input: Serial Clock.", 11 CHSEL1 (in) "Digital Input: Used to select analog input channel", 12 CHSEL0 (in) "Digital Input: Used to select analog input channel", 13 GND (power) "Input: Ground", 14 VREF (in) "Analog Input: Reference Voltage Input", 15 CH4- (in) "Analog Input: Negative Input of the Differential Analog Input", 16 CH4+ (in) "Analog Input: Positive Input of the Differential Analog Input"

## ADS1254E
designator U?
24-Bit, 20 kHz, Low Power ADC, -40 to 85 degC, 20-pin SOP (DBQ20), Green (RoHS & no Sb/Br); Manufacturer: Texas Instruments; PartNumber: ADS1254E; # Input Channels: 4; Analog Voltage AV/DD(Max)(V): 5.25; Analog Voltage AV/DD(Min)(V): 4.75; Architecture: Delta-Sigma; Digital Supply(Max)(V): 3.6; Digital Supply(Min)(V): 1.8; Interface: Serial SPI; Resolution(Bits): 24; Sample Rate (max)(SPS): 20k; SubFamily: Precision ADC (<=10MSPS); DatasheetVersion: SBAS213B; PackageVersion: 4073301-3/H, 10/2008; PackageReference: DBQ20; PackageDescription: 20-Pin Plastic Small Outline, Body 8.65 x 3.9 mm, Pitch 0.635 mm; Supplier 1: Digi-Key; Supplier Part Number 1: ADS8361IDBQG4-ND; Supplier 2: Farnell; Supplier Part Number 2: 1206879; Supplier 3: Mouser; Supplier Part Number 3: 595-ADS8361IDBQG4; Eco-Plan: Green (RoHS & no Sb/Br); Mounting Technology: Surface Mount; Code_JEDEC: MO-137; ComponentLink1Description: Manufacturer URL; ComponentLink1URL: http://www.ti.com/; ComponentLink2Description: Datasheet; ComponentLink2URL: http://www.ti.com/general/docs/lit/getliterature.tsp?genericPartNumber=ADS1254&fileType=pdf; ComponentLink3Description: Package Specification; ComponentLink3URL: http://www.ti.com/litv/pdf/mpds210a
footprint TI-DBQ20_N (SOP, 20-Leads, Body 8.65x3.9mm, Pitch 0.635mm, IPC Medium Density)
footprint TI-DBQ20_L (SOP, 20-Leads, Body 8.65x3.9mm, Pitch 0.635mm, IPC High Density)
footprint TI-DBQ20_M (SOP, 20-Leads, Body 8.65x3.9mm, Pitch 0.635mm, IPC Low Density)
pins: 1 CH1+ (in) "Analog Input: Positive Input of the Differential Analog Input", 2 CH1- (in) "Analog Input: Negative Input of the Differential Analog Input", 3 CH2+ (in) "Analog Input: Positive Input of the Differential Analog Input", 4 CH2- (in) "Analog Input: Negative Input of the Differential Analog Input", 5 CH3+ (in) "Analog Input: Positive Input of the Differential Analog Input", 6 CH3- (in) "Analog Input: Negative Input of the Differential Analog Input", 7 AVDD (power) "Input: Analog Power Supply Voltage, +5V", 8 CLK (in) "Digital Input: Device System Clock. The system clock is in the form of a CMOS-compatible clock. This is a Schmitt-Trigger input", 9 DVDD (power) "Input: Digital Power Supply Voltage", 10 NC "No Connection", 11 NC "No Connection", 12 DGND (power) "Input: Digital Ground", 13 DOUT/~{DRDY} (out) "Digital Output: Serial Data Output/Data Ready. This output indicates that a new output word is available from the ADS1254 data output register. The serial data is clocked out of the serial data output shift register using (See Datasheet)", 14 SCLK (in) "Digital Input: Serial Clock. The serial clock is in the form of a CMOS-compatible clock. The serial clock operates independently from the system clock; therefore, it is possible to run SCLK at a higher frequency than CLK. (See Datasheet)", 15 CHSEL1 (in) "Digital Input: Used to select analog input channel. This is a Schmitt-Trigger Input", 16 CHSEL0 (in) "Digital Input: Used to select analog input channel. This is a Schmitt-Trigger Input", 17 AGND (power) "Input: Analog Ground", 18 VREF (in) "Analog Input: Reference Voltage Input", 19 CH4- (in) "Analog Input: Negative Input of the Differential Analog Input", 20 CH4+ (in) "Analog Input: Positive Input of the Differential Analog Input"

## ADS1254E/2K5
designator U?
24-Bit, 20 kHz, Low Power ADC, -40 to 85 degC, 20-pin SOP (DBQ20), Green (RoHS & no Sb/Br); Manufacturer: Texas Instruments; PartNumber: ADS1254E/2K5; # Input Channels: 4; Analog Voltage AV/DD(Max)(V): 5.25; Analog Voltage AV/DD(Min)(V): 4.75; Architecture: Delta-Sigma; Digital Supply(Max)(V): 3.6; Digital Supply(Min)(V): 1.8; Interface: Serial SPI; Resolution(Bits): 24; Sample Rate (max)(SPS): 20k; SubFamily: Precision ADC (<=10MSPS); DatasheetVersion: SBAS213B; PackageVersion: 4073301-3/H, 10/2008; PackageReference: DBQ20; PackageDescription: 20-Pin Plastic Small Outline, Body 8.65 x 3.9 mm, Pitch 0.635 mm; Supplier 1: Digi-Key; Supplier Part Number 1: ADS8361IDBQR-ND; Supplier 2: Mouser; Supplier Part Number 2: 595-ADS8361IDBQR; Eco-Plan: Green (RoHS & no Sb/Br); Mounting Technology: Surface Mount; Code_JEDEC: MO-137; ComponentLink1Description: Manufacturer URL; ComponentLink1URL: http://www.ti.com/; ComponentLink2Description: Datasheet; ComponentLink2URL: http://www.ti.com/general/docs/lit/getliterature.tsp?genericPartNumber=ADS1254&fileType=pdf; ComponentLink3Description: Package Specification; ComponentLink3URL: http://www.ti.com/litv/pdf/mpds210a
footprint TI-DBQ20_N (SOP, 20-Leads, Body 8.65x3.9mm, Pitch 0.635mm, IPC Medium Density)
footprint TI-DBQ20_L (SOP, 20-Leads, Body 8.65x3.9mm, Pitch 0.635mm, IPC High Density)
footprint TI-DBQ20_M (SOP, 20-Leads, Body 8.65x3.9mm, Pitch 0.635mm, IPC Low Density)
pins: 1 CH1+ (in) "Analog Input: Positive Input of the Differential Analog Input", 2 CH1- (in) "Analog Input: Negative Input of the Differential Analog Input", 3 CH2+ (in) "Analog Input: Positive Input of the Differential Analog Input", 4 CH2- (in) "Analog Input: Negative Input of the Differential Analog Input", 5 CH3+ (in) "Analog Input: Positive Input of the Differential Analog Input", 6 CH3- (in) "Analog Input: Negative Input of the Differential Analog Input", 7 AVDD (power) "Input: Analog Power Supply Voltage, +5V", 8 CLK (in) "Digital Input: Device System Clock. The system clock is in the form of a CMOS-compatible clock. This is a Schmitt-Trigger input", 9 DVDD (power) "Input: Digital Power Supply Voltage", 10 NC "No Connection", 11 NC "No Connection", 12 DGND (power) "Input: Digital Ground", 13 DOUT/~{DRDY} (out) "Digital Output: Serial Data Output/Data Ready. This output indicates that a new output word is available from the ADS1254 data output register. The serial data is clocked out of the serial data output shift register using (See Datasheet)", 14 SCLK (in) "Digital Input: Serial Clock. The serial clock is in the form of a CMOS-compatible clock. The serial clock operates independently from the system clock; therefore, it is possible to run SCLK at a higher frequency than CLK. (See Datasheet)", 15 CHSEL1 (in) "Digital Input: Used to select analog input channel. This is a Schmitt-Trigger Input", 16 CHSEL0 (in) "Digital Input: Used to select analog input channel. This is a Schmitt-Trigger Input", 17 AGND (power) "Input: Analog Ground", 18 VREF (in) "Analog Input: Reference Voltage Input", 19 CH4- (in) "Analog Input: Negative Input of the Differential Analog Input", 20 CH4+ (in) "Analog Input: Positive Input of the Differential Analog Input"

## ADS1254E/2K5G4
designator U?
24-Bit, 20 kHz, Low Power ADC, -40 to 85 degC, 20-pin SOP (DBQ20), Green (RoHS & no Sb/Br); Manufacturer: Texas Instruments; PartNumber: ADS1254E/2K5G4; # Input Channels: 4; Analog Voltage AV/DD(Max)(V): 5.25; Analog Voltage AV/DD(Min)(V): 4.75; Architecture: Delta-Sigma; Digital Supply(Max)(V): 3.6; Digital Supply(Min)(V): 1.8; Interface: Serial SPI; Resolution(Bits): 24; Sample Rate (max)(SPS): 20k; SubFamily: Precision ADC (<=10MSPS); DatasheetVersion: SBAS213B; PackageVersion: 4073301-3/H, 10/2008; PackageReference: DBQ20; PackageDescription: 20-Pin Plastic Small Outline, Body 8.65 x 3.9 mm, Pitch 0.635 mm; Supplier 1: Digi-Key; Supplier Part Number 1: ADS8361IDBQRG4-ND; Supplier 2: Mouser; Supplier Part Number 2: 595-ADS8361IDBQRG4; Eco-Plan: Green (RoHS & no Sb/Br); Mounting Technology: Surface Mount; Code_JEDEC: MO-137; ComponentLink1Description: Manufacturer URL; ComponentLink1URL: http://www.ti.com/; ComponentLink2Description: Datasheet; ComponentLink2URL: http://www.ti.com/general/docs/lit/getliterature.tsp?genericPartNumber=ADS1254&fileType=pdf; ComponentLink3Description: Package Specification; ComponentLink3URL: http://www.ti.com/litv/pdf/mpds210a
footprint TI-DBQ20_N (SOP, 20-Leads, Body 8.65x3.9mm, Pitch 0.635mm, IPC Medium Density)
footprint TI-DBQ20_L (SOP, 20-Leads, Body 8.65x3.9mm, Pitch 0.635mm, IPC High Density)
footprint TI-DBQ20_M (SOP, 20-Leads, Body 8.65x3.9mm, Pitch 0.635mm, IPC Low Density)
pins: 1 CH1+ (in) "Analog Input: Positive Input of the Differential Analog Input", 2 CH1- (in) "Analog Input: Negative Input of the Differential Analog Input", 3 CH2+ (in) "Analog Input: Positive Input of the Differential Analog Input", 4 CH2- (in) "Analog Input: Negative Input of the Differential Analog Input", 5 CH3+ (in) "Analog Input: Positive Input of the Differential Analog Input", 6 CH3- (in) "Analog Input: Negative Input of the Differential Analog Input", 7 AVDD (power) "Input: Analog Power Supply Voltage, +5V", 8 CLK (in) "Digital Input: Device System Clock. The system clock is in the form of a CMOS-compatible clock. This is a Schmitt-Trigger input", 9 DVDD (power) "Input: Digital Power Supply Voltage", 10 NC "No Connection", 11 NC "No Connection", 12 DGND (power) "Input: Digital Ground", 13 DOUT/~{DRDY} (out) "Digital Output: Serial Data Output/Data Ready. This output indicates that a new output word is available from the ADS1254 data output register. The serial data is clocked out of the serial data output shift register using (See Datasheet)", 14 SCLK (in) "Digital Input: Serial Clock. The serial clock is in the form of a CMOS-compatible clock. The serial clock operates independently from the system clock; therefore, it is possible to run SCLK at a higher frequency than CLK. (See Datasheet)", 15 CHSEL1 (in) "Digital Input: Used to select analog input channel. This is a Schmitt-Trigger Input", 16 CHSEL0 (in) "Digital Input: Used to select analog input channel. This is a Schmitt-Trigger Input", 17 AGND (power) "Input: Analog Ground", 18 VREF (in) "Analog Input: Reference Voltage Input", 19 CH4- (in) "Analog Input: Negative Input of the Differential Analog Input", 20 CH4+ (in) "Analog Input: Positive Input of the Differential Analog Input"